# Altium schematic symbol library TPS6305x.SchLib: 1 symbol
Pins are listed as number, name and electrical type; pins without a type are passive.

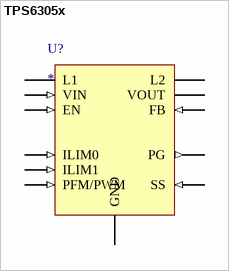
[diagram p0: symbol TPS6305x]

## TPS6305x
designator U?
Single Inductor Buck-Boost with 1A switches and SS
pins: A1 L1, A2 VIN (in), A3 EN (in), B1 GND (power), B2 ILIM0 (in), B3 ILIM1 (in), C1 L2, C2 PFM/PWM (in), C3 PG (out), D1 VOUT (power), D2 FB (in), D3 SS (in)